# Altium integrated library TI Power Management Standard Voltage Regulator.IntLib: 214 symbols (part 2 of 7)
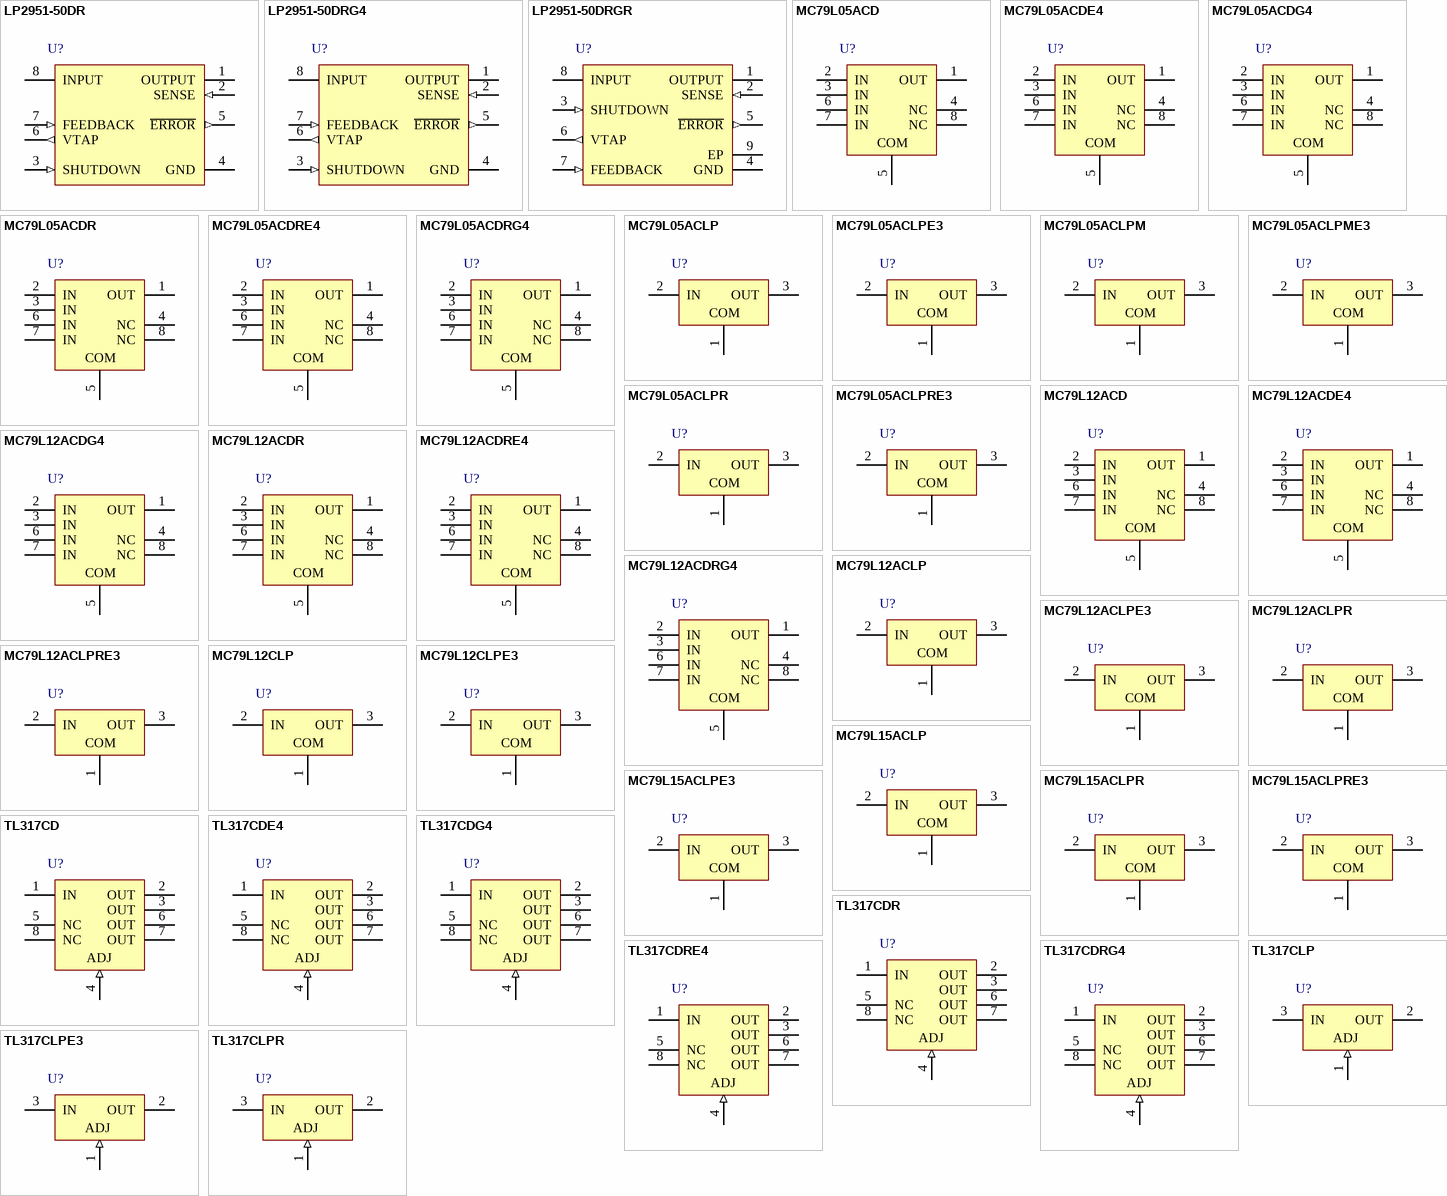
[diagram p7: symbols LP2951-50DR to TL317CLPR]

## MC79L05ACDE4
designator U?
Fixed Regulator with -7 to -20 V Input and -5 V Output, 0 to 125 degC, 8-Pin SOIC (D), Green (RoHS & no Sb/Br); Manufacturer: Texas Instruments; PartNumber: MC79L05ACDE4; Iout(Max)(A): 0.1; Iq(Typ)(mA): 6; DatasheetVersion: SLVS011D; PackageVersion: revM, Jun-2011; PackageReference: D8; PackageDescription: 8-Pin Plastic Small Outline Integrated Circuit, 4.9 x 3.9 mm, Pitch 1.27 mm Pitch; Supplier 1: Digi-Key; Supplier Part Number 1: MC79L05ACDE4-ND; Supplier 2: Newark; Supplier Part Number 2: 40K7402; Supplier 3: Mouser; Supplier Part Number 3: 595-MC79L05ACDE4; Eco-Plan: Green (RoHS & no Sb/Br); Vin(Max)(V): -20; Vin(Min)(V): -7; Vout(Max)(V): -5; Vout(Min)(V): -5; Mounting Technology: Surface Mount; Code_JEDEC: MS-012AA; ComponentLink1Description: Datasheet; ComponentLink1URL: http://www.ti.com/general/docs/lit/getliterature.tsp?genericPartNumber=MC79L05A&fileType=pdf; ComponentLink2Description: Package Specification; ComponentLink2URL: http://www.ti.com/litv/pdf/msoi002j; ComponentLink3Description: URL Link1; ComponentLink3URL: Samples URL:http://www.ti.com/product/mc79l05a#samples
footprint D8_N (SOIC, 8-Leads, Body 4.9x3.9mm, Pitch 1.27mm, IPC Medium Density)
footprint D8_L (SOIC, 8-Leads, Body 4.9x3.9mm, Pitch 1.27mm, IPC High Density)
footprint D8_M (SOIC, 8-Leads, Body 4.9x3.9mm, Pitch 1.27mm, IPC Low Density)
pins: 1 OUT (power), 2 IN (power), 3 IN (power), 4 NC, 5 COM (power), 6 IN (power), 7 IN (power), 8 NC

## MC79L05ACDG4
designator U?
Fixed Regulator with -7 to -20 V Input and -5 V Output, 0 to 125 degC, 8-Pin SOIC (D), Green (RoHS & no Sb/Br); Manufacturer: Texas Instruments; PartNumber: MC79L05ACDG4; Iout(Max)(A): 0.1; Iq(Typ)(mA): 6; DatasheetVersion: SLVS011D; PackageVersion: revM, Jun-2011; PackageReference: D8; PackageDescription: 8-Pin Plastic Small Outline Integrated Circuit, 4.9 x 3.9 mm, Pitch 1.27 mm Pitch; Supplier 1: Digi-Key; Supplier Part Number 1: MC79L05ACDG4-ND; Supplier 2: Newark; Supplier Part Number 2: 40K7403; Supplier 3: Mouser; Supplier Part Number 3: 595-MC79L05ACDG4; Eco-Plan: Green (RoHS & no Sb/Br); Vin(Max)(V): -20; Vin(Min)(V): -7; Vout(Max)(V): -5; Vout(Min)(V): -5; Mounting Technology: Surface Mount; Code_JEDEC: MS-012AA; ComponentLink1Description: Datasheet; ComponentLink1URL: http://www.ti.com/general/docs/lit/getliterature.tsp?genericPartNumber=MC79L05A&fileType=pdf; ComponentLink2Description: Package Specification; ComponentLink2URL: http://www.ti.com/litv/pdf/msoi002j; ComponentLink3Description: URL Link1; ComponentLink3URL: Samples URL:http://www.ti.com/product/mc79l05a#samples
footprint D8_N (SOIC, 8-Leads, Body 4.9x3.9mm, Pitch 1.27mm, IPC Medium Density)
footprint D8_L (SOIC, 8-Leads, Body 4.9x3.9mm, Pitch 1.27mm, IPC High Density)
footprint D8_M (SOIC, 8-Leads, Body 4.9x3.9mm, Pitch 1.27mm, IPC Low Density)
pins: 1 OUT (power), 2 IN (power), 3 IN (power), 4 NC, 5 COM (power), 6 IN (power), 7 IN (power), 8 NC

## MC79L05ACDR
designator U?
Fixed Regulator with -7 to -20 V Input and -5 V Output, 0 to 125 degC, 8-Pin SOIC (D), Green (RoHS & no Sb/Br); Manufacturer: Texas Instruments; PartNumber: MC79L05ACDR; Iout(Max)(A): 0.1; Iq(Typ)(mA): 6; DatasheetVersion: SLVS011D; PackageVersion: revM, Jun-2011; PackageReference: D8; PackageDescription: 8-Pin Plastic Small Outline Integrated Circuit, 4.9 x 3.9 mm, Pitch 1.27 mm Pitch; Supplier 1: Digi-Key; Supplier Part Number 1: 296-1016-2-ND; Supplier 2: Digi-Key; Supplier Part Number 2: 296-1016-1-ND; Supplier 3: Newark; Supplier Part Number 3: 35C1792; Supplier 4: Mouser; Supplier Part Number 4: 595-MC79L05ACDR; Eco-Plan: Green (RoHS & no Sb/Br); Vin(Max)(V): -20; Vin(Min)(V): -7; Vout(Max)(V): -5; Vout(Min)(V): -5; Mounting Technology: Surface Mount; Code_JEDEC: MS-012AA; ComponentLink1Description: Datasheet; ComponentLink1URL: http://www.ti.com/general/docs/lit/getliterature.tsp?genericPartNumber=MC79L05A&fileType=pdf; ComponentLink2Description: Package Specification; ComponentLink2URL: http://www.ti.com/litv/pdf/msoi002j; ComponentLink3Description: URL Link1; ComponentLink3URL: Samples URL:http://www.ti.com/product/mc79l05a#samples
footprint D8_N (SOIC, 8-Leads, Body 4.9x3.9mm, Pitch 1.27mm, IPC Medium Density)
footprint D8_L (SOIC, 8-Leads, Body 4.9x3.9mm, Pitch 1.27mm, IPC High Density)
footprint D8_M (SOIC, 8-Leads, Body 4.9x3.9mm, Pitch 1.27mm, IPC Low Density)
pins: 1 OUT (power), 2 IN (power), 3 IN (power), 4 NC, 5 COM (power), 6 IN (power), 7 IN (power), 8 NC

## MC79L05ACDRE4
designator U?
Fixed Regulator with -7 to -20 V Input and -5 V Output, 0 to 125 degC, 8-Pin SOIC (D), Green (RoHS & no Sb/Br); Manufacturer: Texas Instruments; PartNumber: MC79L05ACDRE4; Iout(Max)(A): 0.1; Iq(Typ)(mA): 6; DatasheetVersion: SLVS011D; PackageVersion: revM, Jun-2011; PackageReference: D8; PackageDescription: 8-Pin Plastic Small Outline Integrated Circuit, 4.9 x 3.9 mm, Pitch 1.27 mm Pitch; Supplier 1: Digi-Key; Supplier Part Number 1: MC79L05ACDRE4-ND; Supplier 2: Newark; Supplier Part Number 2: 40K7404; Supplier 3: Mouser; Supplier Part Number 3: 595-MC79L05ACDRE4; Eco-Plan: Green (RoHS & no Sb/Br); Vin(Max)(V): -20; Vin(Min)(V): -7; Vout(Max)(V): -5; Vout(Min)(V): -5; Mounting Technology: Surface Mount; Code_JEDEC: MS-012AA; ComponentLink1Description: Datasheet; ComponentLink1URL: http://www.ti.com/general/docs/lit/getliterature.tsp?genericPartNumber=MC79L05A&fileType=pdf; ComponentLink2Description: Package Specification; ComponentLink2URL: http://www.ti.com/litv/pdf/msoi002j; ComponentLink3Description: URL Link1; ComponentLink3URL: Samples URL:http://www.ti.com/product/mc79l05a#samples
footprint D8_N (SOIC, 8-Leads, Body 4.9x3.9mm, Pitch 1.27mm, IPC Medium Density)
footprint D8_L (SOIC, 8-Leads, Body 4.9x3.9mm, Pitch 1.27mm, IPC High Density)
footprint D8_M (SOIC, 8-Leads, Body 4.9x3.9mm, Pitch 1.27mm, IPC Low Density)
pins: 1 OUT (power), 2 IN (power), 3 IN (power), 4 NC, 5 COM (power), 6 IN (power), 7 IN (power), 8 NC

## MC79L05ACDRG4
designator U?
Fixed Regulator with -7 to -20 V Input and -5 V Output, 0 to 125 degC, 8-Pin SOIC (D), Green (RoHS & no Sb/Br); Manufacturer: Texas Instruments; PartNumber: MC79L05ACDRG4; Iout(Max)(A): 0.1; Iq(Typ)(mA): 6; DatasheetVersion: SLVS011D; PackageVersion: revM, Jun-2011; PackageReference: D8; PackageDescription: 8-Pin Plastic Small Outline Integrated Circuit, 4.9 x 3.9 mm, Pitch 1.27 mm Pitch; Supplier 1: Digi-Key; Supplier Part Number 1: MC79L05ACDRG4-ND; Supplier 2: Newark; Supplier Part Number 2: 40K7405; Supplier 3: Mouser; Supplier Part Number 3: 595-MC79L05ACDRG4; Eco-Plan: Green (RoHS & no Sb/Br); Vin(Max)(V): -20; Vin(Min)(V): -7; Vout(Max)(V): -5; Vout(Min)(V): -5; Mounting Technology: Surface Mount; Code_JEDEC: MS-012AA; ComponentLink1Description: Datasheet; ComponentLink1URL: http://www.ti.com/general/docs/lit/getliterature.tsp?genericPartNumber=MC79L05A&fileType=pdf; ComponentLink2Description: Package Specification; ComponentLink2URL: http://www.ti.com/litv/pdf/msoi002j; ComponentLink3Description: URL Link1; ComponentLink3URL: Samples URL:http://www.ti.com/product/mc79l05a#samples
footprint D8_N (SOIC, 8-Leads, Body 4.9x3.9mm, Pitch 1.27mm, IPC Medium Density)
footprint D8_L (SOIC, 8-Leads, Body 4.9x3.9mm, Pitch 1.27mm, IPC High Density)
footprint D8_M (SOIC, 8-Leads, Body 4.9x3.9mm, Pitch 1.27mm, IPC Low Density)
pins: 1 OUT (power), 2 IN (power), 3 IN (power), 4 NC, 5 COM (power), 6 IN (power), 7 IN (power), 8 NC

## MC79L05ACLP
designator U?
Fixed Regulator with -7 to -20 V Input and -5 V Output, 0 to 125 degC, 3-Pin TO-92 (LP), Pb-Free (RoHS); Manufacturer: Texas Instruments; PartNumber: MC79L05ACLP; Iout(Max)(A): 0.1; Iq(Typ)(mA): 6; Vdo(Typ)(V): 1.7; DatasheetVersion: SLVS011D; PackageVersion: revC, Oct-2001; PackageReference: LP3; PackageDescription: Plastic Cylindrical Package, Formed Lead Option (TO-92); Supplier 1: Digi-Key; Supplier Part Number 1: 296-9603-5-ND; Supplier 2: Farnell; Supplier Part Number 2: 9589848; Supplier 3: Newark; Supplier Part Number 3: 07F7671; Supplier 4: Mouser; Supplier Part Number 4: 595-MC79L05ACLP; Eco-Plan: Pb-Free (RoHS); Vin(Max)(V): -20; Vin(Min)(V): -7; Vout(Max)(V): -5; Vout(Min)(V): -5; Mounting Technology: Through Hole; Code_JEDEC: TO-226-AA; ComponentLink1Description: Datasheet; ComponentLink1URL: http://www.ti.com/general/docs/lit/getliterature.tsp?genericPartNumber=MC79L05A&fileType=pdf; ComponentLink2Description: Package Specification; ComponentLink2URL: http://www.ti.com/litv/pdf/msot002a; ComponentLink3Description: URL Link1; ComponentLink3URL: Samples URL:http://www.ti.com/product/mc79l05a#samples
footprint LP3 (TO, Flat Index; 3 In-Line, Formed Axial Leads; Body Dia. 4.8mm; Leads 0.56 x 0.41 mm (max))
pins: 1 COM (power), 2 IN (power), 3 OUT (power)

## MC79L05ACLPE3
designator U?
Fixed Regulator with -7 to -20 V Input and -5 V Output, 0 to 125 degC, 3-Pin TO-92 (LP), Pb-Free (RoHS); Manufacturer: Texas Instruments; PartNumber: MC79L05ACLPE3; Iout(Max)(A): 0.1; Iq(Typ)(mA): 6; DatasheetVersion: SLVS011D; PackageVersion: revC, Oct-2001; PackageReference: LP3; PackageDescription: Plastic Cylindrical Package, Formed Lead Option (TO-92); Supplier 1: Digi-Key; Supplier Part Number 1: MC79L05ACLPE3-ND; Supplier 2: Mouser; Supplier Part Number 2: 595-MC79L05ACLPE3; Eco-Plan: Pb-Free (RoHS); Vin(Max)(V): -20; Vin(Min)(V): -7; Vout(Max)(V): -5; Vout(Min)(V): -5; Mounting Technology: Through Hole; Code_JEDEC: TO-226-AA; ComponentLink1Description: Datasheet; ComponentLink1URL: http://www.ti.com/general/docs/lit/getliterature.tsp?genericPartNumber=MC79L05A&fileType=pdf; ComponentLink2Description: Package Specification; ComponentLink2URL: http://www.ti.com/litv/pdf/msot002a; ComponentLink3Description: URL Link1; ComponentLink3URL: Samples URL:http://www.ti.com/product/mc79l05a#samples
footprint LP3 (TO, Flat Index; 3 In-Line, Formed Axial Leads; Body Dia. 4.8mm; Leads 0.56 x 0.41 mm (max))
pins: 1 COM (power), 2 IN (power), 3 OUT (power)

## MC79L05ACLPM
designator U?
Fixed Regulator with -7 to -20 V Input and -5 V Output, 0 to 125 degC, 3-Pin TO-92 (LP), Pb-Free (RoHS); Manufacturer: Texas Instruments; PartNumber: MC79L05ACLPM; Iout(Max)(A): 0.1; Iq(Typ)(mA): 6; DatasheetVersion: SLVS011D; PackageVersion: revC, Oct-2001; PackageReference: LP3; PackageDescription: Plastic Cylindrical Package, Formed Lead Option (TO-92); Supplier 1: Digi-Key; Supplier Part Number 1: MC79L05ACLPM-ND; Supplier 2: Mouser; Supplier Part Number 2: 595-MC79L05ACLPM; Eco-Plan: Pb-Free (RoHS); Vin(Max)(V): -20; Vin(Min)(V): -7; Vout(Max)(V): -5; Vout(Min)(V): -5; Mounting Technology: Through Hole; Code_JEDEC: TO-226-AA; ComponentLink1Description: Datasheet; ComponentLink1URL: http://www.ti.com/general/docs/lit/getliterature.tsp?genericPartNumber=MC79L05A&fileType=pdf; ComponentLink2Description: Package Specification; ComponentLink2URL: http://www.ti.com/litv/pdf/msot002a; ComponentLink3Description: URL Link1; ComponentLink3URL: Samples URL:http://www.ti.com/product/mc79l05a#samples
footprint LP3 (TO, Flat Index; 3 In-Line, Formed Axial Leads; Body Dia. 4.8mm; Leads 0.56 x 0.41 mm (max))
pins: 1 COM (power), 2 IN (power), 3 OUT (power)

## MC79L05ACLPME3
designator U?
Fixed Regulator with -7 to -20 V Input and -5 V Output, 0 to 125 degC, 3-Pin TO-92 (LP), Pb-Free (RoHS); Manufacturer: Texas Instruments; PartNumber: MC79L05ACLPME3; Iout(Max)(A): 0.1; Iq(Typ)(mA): 6; SubFamily: Single Channel LDO; DatasheetVersion: SLVS011D; PackageVersion: revC, Oct-2001; PackageReference: LP3; PackageDescription: Plastic Cylindrical Package, Formed Lead Option (TO-92); Supplier 1: Digi-Key; Supplier Part Number 1: MC79L05ACLPME3-ND; Supplier 2: Mouser; Supplier Part Number 2: 595-MC79L05ACLPME3; Eco-Plan: Pb-Free (RoHS); Vin(Max)(V): -20; Vin(Min)(V): -7; Vout(Max)(V): -5; Vout(Min)(V): -5; Mounting Technology: Through Hole; Code_JEDEC: TO-226-AA; ComponentLink1Description: Datasheet; ComponentLink1URL: http://www.ti.com/general/docs/lit/getliterature.tsp?genericPartNumber=MC79L05A&fileType=pdf; ComponentLink2Description: Package Specification; ComponentLink2URL: http://www.ti.com/litv/pdf/msot002a; ComponentLink3Description: URL Link1; ComponentLink3URL: Samples URL:http://www.ti.com/product/mc79l05a#samples
footprint LP3 (TO, Flat Index; 3 In-Line, Formed Axial Leads; Body Dia. 4.8mm; Leads 0.56 x 0.41 mm (max))
pins: 1 COM (power), 2 IN (power), 3 OUT (power)

## MC79L05ACLPR
designator U?
Fixed Regulator with -7 to -20 V Input and -5 V Output, 0 to 125 degC, 3-Pin TO-92 (LP), Pb-Free (RoHS); Manufacturer: Texas Instruments; PartNumber: MC79L05ACLPR; Iout(Max)(A): 0.1; Iq(Typ)(mA): 6; DatasheetVersion: SLVS011D; PackageVersion: revC, Oct-2001; PackageReference: LP3; PackageDescription: Plastic Cylindrical Package, Formed Lead Option (TO-92); Supplier 1: Digi-Key; Supplier Part Number 1: 296-31456-2-ND; Supplier 2: Digi-Key; Supplier Part Number 2: 296-31456-1-ND; Supplier 3: Newark; Supplier Part Number 3: 75C3278; Supplier 4: Mouser; Supplier Part Number 4: 595-MC79L05ACLPR; Eco-Plan: Pb-Free (RoHS); Vin(Max)(V): -20; Vin(Min)(V): -7; Vout(Max)(V): -5; Vout(Min)(V): -5; Mounting Technology: Through Hole; Code_JEDEC: TO-226-AA; ComponentLink1Description: Datasheet; ComponentLink1URL: http://www.ti.com/general/docs/lit/getliterature.tsp?genericPartNumber=MC79L05A&fileType=pdf; ComponentLink2Description: Package Specification; ComponentLink2URL: http://www.ti.com/litv/pdf/msot002a; ComponentLink3Description: URL Link1; ComponentLink3URL: Samples URL:http://www.ti.com/product/mc79l05a#samples
footprint LP3 (TO, Flat Index; 3 In-Line, Formed Axial Leads; Body Dia. 4.8mm; Leads 0.56 x 0.41 mm (max))
pins: 1 COM (power), 2 IN (power), 3 OUT (power)

## MC79L05ACLPRE3
designator U?
Fixed Regulator with -7 to -20 V Input and -5 V Output, 0 to 125 degC, 3-Pin TO-92 (LP), Pb-Free (RoHS); Manufacturer: Texas Instruments; PartNumber: MC79L05ACLPRE3; Iout(Max)(A): 0.1; Iq(Typ)(mA): 6; DatasheetVersion: SLVS011D; PackageVersion: revC, Oct-2001; PackageReference: LP3; PackageDescription: Plastic Cylindrical Package, Formed Lead Option (TO-92); Supplier 1: Digi-Key; Supplier Part Number 1: MC79L05ACLPRE3-ND; Supplier 2: Mouser; Supplier Part Number 2: 595-MC79L05ACLPRE3; Eco-Plan: Pb-Free (RoHS); Vin(Max)(V): -20; Vin(Min)(V): -7; Vout(Max)(V): -5; Vout(Min)(V): -5; Mounting Technology: Through Hole; Code_JEDEC: TO-226-AA; ComponentLink1Description: Datasheet; ComponentLink1URL: http://www.ti.com/general/docs/lit/getliterature.tsp?genericPartNumber=MC79L05A&fileType=pdf; ComponentLink2Description: Package Specification; ComponentLink2URL: http://www.ti.com/litv/pdf/msot002a; ComponentLink3Description: URL Link1; ComponentLink3URL: Samples URL:http://www.ti.com/product/mc79l05a#samples
footprint LP3 (TO, Flat Index; 3 In-Line, Formed Axial Leads; Body Dia. 4.8mm; Leads 0.56 x 0.41 mm (max))
pins: 1 COM (power), 2 IN (power), 3 OUT (power)

## MC79L12ACD
designator U?
Fixed Regulator with -14.5 to -27 V Input and -12 V Output, 0 to 125 degC, 8-Pin SOIC (D), Green (RoHS & no Sb/Br); Manufacturer: Texas Instruments; PartNumber: MC79L12ACD; Iout(Max)(A): 0.1; Iq(Typ)(mA): 6.5; DatasheetVersion: SLVS011D; PackageVersion: revM, Jun-2011; PackageReference: D8; PackageDescription: 8-Pin Plastic Small Outline Integrated Circuit, 4.9 x 3.9 mm, Pitch 1.27 mm Pitch; Supplier 1: Digi-Key; Supplier Part Number 1: 296-9604-5-ND; Supplier 2: Farnell; Supplier Part Number 2: 1461053; Supplier 3: Newark; Supplier Part Number 3: 61M7746; Supplier 4: Newark; Supplier Part Number 4: 75C3284; Supplier 5: Mouser; Supplier Part Number 5: 595-MC79L12ACD; Eco-Plan: Green (RoHS & no Sb/Br); Vin(Max)(V): -27; Vin(Min)(V): -14.5; Vout(Max)(V): -12; Vout(Min)(V): -12; Mounting Technology: Surface Mount; Code_JEDEC: MS-012AA; ComponentLink1Description: Datasheet; ComponentLink1URL: http://www.ti.com/general/docs/lit/getliterature.tsp?genericPartNumber=MC79L12A&fileType=pdf; ComponentLink2Description: Package Specification; ComponentLink2URL: http://www.ti.com/litv/pdf/msoi002j; ComponentLink3Description: URL Link1; ComponentLink3URL: Samples URL:http://www.ti.com/product/mc79l12a#samples
footprint D8_N (SOIC, 8-Leads, Body 4.9x3.9mm, Pitch 1.27mm, IPC Medium Density)
footprint D8_L (SOIC, 8-Leads, Body 4.9x3.9mm, Pitch 1.27mm, IPC High Density)
footprint D8_M (SOIC, 8-Leads, Body 4.9x3.9mm, Pitch 1.27mm, IPC Low Density)
pins: 1 OUT (power), 2 IN (power), 3 IN (power), 4 NC, 5 COM (power), 6 IN (power), 7 IN (power), 8 NC

## MC79L12ACDE4
designator U?
Fixed Regulator with -14.5 to -27 V Input and -12 V Output, 0 to 125 degC, 8-Pin SOIC (D), Green (RoHS & no Sb/Br); Manufacturer: Texas Instruments; PartNumber: MC79L12ACDE4; Iout(Max)(A): 0.1; Iq(Typ)(mA): 6.5; DatasheetVersion: SLVS011D; PackageVersion: revM, Jun-2011; PackageReference: D8; PackageDescription: 8-Pin Plastic Small Outline Integrated Circuit, 4.9 x 3.9 mm, Pitch 1.27 mm Pitch; Supplier 1: Digi-Key; Supplier Part Number 1: MC79L12ACDE4-ND; Supplier 2: Newark; Supplier Part Number 2: 37K0618; Supplier 3: Mouser; Supplier Part Number 3: 595-MC79L12ACDE4; Eco-Plan: Green (RoHS & no Sb/Br); Vin(Max)(V): -27; Vin(Min)(V): -14.5; Vout(Max)(V): -12; Vout(Min)(V): -12; Mounting Technology: Surface Mount; Code_JEDEC: MS-012AA; ComponentLink1Description: Datasheet; ComponentLink1URL: http://www.ti.com/general/docs/lit/getliterature.tsp?genericPartNumber=MC79L12A&fileType=pdf; ComponentLink2Description: Package Specification; ComponentLink2URL: http://www.ti.com/litv/pdf/msoi002j; ComponentLink3Description: URL Link1; ComponentLink3URL: Samples URL:http://www.ti.com/product/mc79l12a#samples
footprint D8_N (SOIC, 8-Leads, Body 4.9x3.9mm, Pitch 1.27mm, IPC Medium Density)
footprint D8_L (SOIC, 8-Leads, Body 4.9x3.9mm, Pitch 1.27mm, IPC High Density)
footprint D8_M (SOIC, 8-Leads, Body 4.9x3.9mm, Pitch 1.27mm, IPC Low Density)
pins: 1 OUT (power), 2 IN (power), 3 IN (power), 4 NC, 5 COM (power), 6 IN (power), 7 IN (power), 8 NC

## MC79L12ACDG4
designator U?
Fixed Regulator with -14.5 to -27 V Input and -12 V Output, 0 to 125 degC, 8-Pin SOIC (D), Green (RoHS & no Sb/Br); Manufacturer: Texas Instruments; PartNumber: MC79L12ACDG4; Iout(Max)(A): 0.1; Iq(Typ)(mA): 6.5; DatasheetVersion: SLVS011D; PackageVersion: revM, Jun-2011; PackageReference: D8; PackageDescription: 8-Pin Plastic Small Outline Integrated Circuit, 4.9 x 3.9 mm, Pitch 1.27 mm Pitch; Supplier 1: Digi-Key; Supplier Part Number 1: MC79L12ACDG4-ND; Supplier 2: Newark; Supplier Part Number 2: 41M3579; Supplier 3: Mouser; Supplier Part Number 3: 595-MC79L12ACDG4; Eco-Plan: Green (RoHS & no Sb/Br); Vin(Max)(V): -27; Vin(Min)(V): -14.5; Vout(Max)(V): -12; Vout(Min)(V): -12; Mounting Technology: Surface Mount; Code_JEDEC: MS-012AA; ComponentLink1Description: Datasheet; ComponentLink1URL: http://www.ti.com/general/docs/lit/getliterature.tsp?genericPartNumber=MC79L12A&fileType=pdf; ComponentLink2Description: Package Specification; ComponentLink2URL: http://www.ti.com/litv/pdf/msoi002j; ComponentLink3Description: URL Link1; ComponentLink3URL: Samples URL:http://www.ti.com/product/mc79l12a#samples
footprint D8_N (SOIC, 8-Leads, Body 4.9x3.9mm, Pitch 1.27mm, IPC Medium Density)
footprint D8_L (SOIC, 8-Leads, Body 4.9x3.9mm, Pitch 1.27mm, IPC High Density)
footprint D8_M (SOIC, 8-Leads, Body 4.9x3.9mm, Pitch 1.27mm, IPC Low Density)
pins: 1 OUT (power), 2 IN (power), 3 IN (power), 4 NC, 5 COM (power), 6 IN (power), 7 IN (power), 8 NC

## MC79L12ACDR
designator U?
Fixed Regulator with -14.5 to -27 V Input and -12 V Output, 0 to 125 degC, 8-Pin SOIC (D), Green (RoHS & no Sb/Br); Manufacturer: Texas Instruments; PartNumber: MC79L12ACDR; Iout(Max)(A): 0.1; Iq(Typ)(mA): 6.5; DatasheetVersion: SLVS011D; PackageVersion: revM, Jun-2011; PackageReference: D8; PackageDescription: 8-Pin Plastic Small Outline Integrated Circuit, 4.9 x 3.9 mm, Pitch 1.27 mm Pitch; Supplier 1: Digi-Key; Supplier Part Number 1: 296-31679-2-ND; Supplier 2: Digi-Key; Supplier Part Number 2: 296-31679-1-ND; Supplier 3: Digi-Key; Supplier Part Number 3: 296-31679-6-ND; Supplier 4: Newark; Supplier Part Number 4: 75C3285; Supplier 5: Mouser; Supplier Part Number 5: 595-MC79L12ACDR; Eco-Plan: Green (RoHS & no Sb/Br); Vin(Max)(V): -27; Vin(Min)(V): -14.5; Vout(Max)(V): -12; Vout(Min)(V): -12; Mounting Technology: Surface Mount; Code_JEDEC: MS-012AA; ComponentLink1Description: Datasheet; ComponentLink1URL: http://www.ti.com/general/docs/lit/getliterature.tsp?genericPartNumber=MC79L12A&fileType=pdf; ComponentLink2Description: Package Specification; ComponentLink2URL: http://www.ti.com/litv/pdf/msoi002j; ComponentLink3Description: URL Link1; ComponentLink3URL: Samples URL:http://www.ti.com/product/mc79l12a#samples
footprint D8_N (SOIC, 8-Leads, Body 4.9x3.9mm, Pitch 1.27mm, IPC Medium Density)
footprint D8_L (SOIC, 8-Leads, Body 4.9x3.9mm, Pitch 1.27mm, IPC High Density)
footprint D8_M (SOIC, 8-Leads, Body 4.9x3.9mm, Pitch 1.27mm, IPC Low Density)
pins: 1 OUT (power), 2 IN (power), 3 IN (power), 4 NC, 5 COM (power), 6 IN (power), 7 IN (power), 8 NC

## MC79L12ACDRE4
designator U?
Fixed Regulator with -14.5 to -27 V Input and -12 V Output, 0 to 125 degC, 8-Pin SOIC (D), Green (RoHS & no Sb/Br); Manufacturer: Texas Instruments; PartNumber: MC79L12ACDRE4; Iout(Max)(A): 0.1; Iq(Typ)(mA): 6.5; DatasheetVersion: SLVS011D; PackageVersion: revM, Jun-2011; PackageReference: D8; PackageDescription: 8-Pin Plastic Small Outline Integrated Circuit, 4.9 x 3.9 mm, Pitch 1.27 mm Pitch; Supplier 1: Digi-Key; Supplier Part Number 1: MC79L12ACDRE4-ND; Supplier 2: Newark; Supplier Part Number 2: 37K0619; Supplier 3: Mouser; Supplier Part Number 3: 595-MC79L12ACDRE4; Eco-Plan: Green (RoHS & no Sb/Br); Vin(Max)(V): -27; Vin(Min)(V): -14.5; Vout(Max)(V): -12; Vout(Min)(V): -12; Mounting Technology: Surface Mount; Code_JEDEC: MS-012AA; ComponentLink1Description: Datasheet; ComponentLink1URL: http://www.ti.com/general/docs/lit/getliterature.tsp?genericPartNumber=MC79L12A&fileType=pdf; ComponentLink2Description: Package Specification; ComponentLink2URL: http://www.ti.com/litv/pdf/msoi002j; ComponentLink3Description: URL Link1; ComponentLink3URL: Samples URL:http://www.ti.com/product/mc79l12a#samples
footprint D8_N (SOIC, 8-Leads, Body 4.9x3.9mm, Pitch 1.27mm, IPC Medium Density)
footprint D8_L (SOIC, 8-Leads, Body 4.9x3.9mm, Pitch 1.27mm, IPC High Density)
footprint D8_M (SOIC, 8-Leads, Body 4.9x3.9mm, Pitch 1.27mm, IPC Low Density)
pins: 1 OUT (power), 2 IN (power), 3 IN (power), 4 NC, 5 COM (power), 6 IN (power), 7 IN (power), 8 NC

## MC79L12ACDRG4
designator U?
Fixed Regulator with -14.5 to -27 V Input and -12 V Output, 0 to 125 degC, 8-Pin SOIC (D), Green (RoHS & no Sb/Br); Manufacturer: Texas Instruments; PartNumber: MC79L12ACDRG4; Iout(Max)(A): 0.1; Iq(Typ)(mA): 6.5; DatasheetVersion: SLVS011D; PackageVersion: revM, Jun-2011; PackageReference: D8; PackageDescription: 8-Pin Plastic Small Outline Integrated Circuit, 4.9 x 3.9 mm, Pitch 1.27 mm Pitch; Supplier 1: Digi-Key; Supplier Part Number 1: MC79L12ACDRG4-ND; Supplier 2: Newark; Supplier Part Number 2: 41M3580; Supplier 3: Mouser; Supplier Part Number 3: 595-MC79L12ACDRG4; Eco-Plan: Green (RoHS & no Sb/Br); Vin(Max)(V): -27; Vin(Min)(V): -14.5; Vout(Max)(V): -12; Vout(Min)(V): -12; Mounting Technology: Surface Mount; Code_JEDEC: MS-012AA; ComponentLink1Description: Datasheet; ComponentLink1URL: http://www.ti.com/general/docs/lit/getliterature.tsp?genericPartNumber=MC79L12A&fileType=pdf; ComponentLink2Description: Package Specification; ComponentLink2URL: http://www.ti.com/litv/pdf/msoi002j; ComponentLink3Description: URL Link1; ComponentLink3URL: Samples URL:http://www.ti.com/product/mc79l12a#samples
footprint D8_N (SOIC, 8-Leads, Body 4.9x3.9mm, Pitch 1.27mm, IPC Medium Density)
footprint D8_L (SOIC, 8-Leads, Body 4.9x3.9mm, Pitch 1.27mm, IPC High Density)
footprint D8_M (SOIC, 8-Leads, Body 4.9x3.9mm, Pitch 1.27mm, IPC Low Density)
pins: 1 OUT (power), 2 IN (power), 3 IN (power), 4 NC, 5 COM (power), 6 IN (power), 7 IN (power), 8 NC

## MC79L12ACLP
designator U?
Fixed Regulator with -14.5 to -27 V Input and -12 V Output, 0 to 125 degC, 3-Pin TO-92 (LP), Pb-Free (RoHS); Manufacturer: Texas Instruments; PartNumber: MC79L12ACLP; Iout(Max)(A): 0.1; Iq(Typ)(mA): 6.5; DatasheetVersion: SLVS011D; PackageVersion: revC, Oct-2001; PackageReference: LP3; PackageDescription: Plastic Cylindrical Package, Formed Lead Option (TO-92); Supplier 1: Digi-Key; Supplier Part Number 1: 296-31375-ND; Supplier 2: Newark; Supplier Part Number 2: 75C3287; Supplier 3: Mouser; Supplier Part Number 3: 595-MC79L12ACLP; Eco-Plan: Pb-Free (RoHS); Vin(Max)(V): -27; Vin(Min)(V): -14.5; Vout(Max)(V): -12; Vout(Min)(V): -12; Mounting Technology: Through Hole; Code_JEDEC: TO-226-AA; ComponentLink1Description: Datasheet; ComponentLink1URL: http://www.ti.com/general/docs/lit/getliterature.tsp?genericPartNumber=MC79L12A&fileType=pdf; ComponentLink2Description: Package Specification; ComponentLink2URL: http://www.ti.com/litv/pdf/msot002a; ComponentLink3Description: URL Link1; ComponentLink3URL: Samples URL:http://www.ti.com/product/mc79l12a#samples
footprint LP3 (TO, Flat Index; 3 In-Line, Formed Axial Leads; Body Dia. 4.8mm; Leads 0.56 x 0.41 mm (max))
pins: 1 COM (power), 2 IN (power), 3 OUT (power)

## MC79L12ACLPE3
designator U?
Fixed Regulator with -14.5 to -27 V Input and -12 V Output, 0 to 125 degC, 3-Pin TO-92 (LP), Pb-Free (RoHS); Manufacturer: Texas Instruments; PartNumber: MC79L12ACLPE3; Iout(Max)(A): 0.1; Iq(Typ)(mA): 6.5; DatasheetVersion: SLVS011D; PackageVersion: revC, Oct-2001; PackageReference: LP3; PackageDescription: Plastic Cylindrical Package, Formed Lead Option (TO-92); Supplier 1: Digi-Key; Supplier Part Number 1: MC79L12ACLPE3-ND; Supplier 2: Mouser; Supplier Part Number 2: 595-MC79L12ACLPE3; Eco-Plan: Pb-Free (RoHS); Vin(Max)(V): -27; Vin(Min)(V): -14.5; Vout(Max)(V): -12; Vout(Min)(V): -12; Mounting Technology: Through Hole; Code_JEDEC: TO-226-AA; ComponentLink1Description: Datasheet; ComponentLink1URL: http://www.ti.com/general/docs/lit/getliterature.tsp?genericPartNumber=MC79L12A&fileType=pdf; ComponentLink2Description: Package Specification; ComponentLink2URL: http://www.ti.com/litv/pdf/msot002a; ComponentLink3Description: URL Link1; ComponentLink3URL: Samples URL:http://www.ti.com/product/mc79l12a#samples
footprint LP3 (TO, Flat Index; 3 In-Line, Formed Axial Leads; Body Dia. 4.8mm; Leads 0.56 x 0.41 mm (max))
pins: 1 COM (power), 2 IN (power), 3 OUT (power)

## MC79L12ACLPR
designator U?
Fixed Regulator with -14.5 to -27 V Input and -12 V Output, 0 to 125 degC, 3-Pin TO-92 (LP), Pb-Free (RoHS); Manufacturer: Texas Instruments; PartNumber: MC79L12ACLPR; Iout(Max)(A): 0.1; Iq(Typ)(mA): 6.5; DatasheetVersion: SLVS011D; PackageVersion: revC, Oct-2001; PackageReference: LP3; PackageDescription: Plastic Cylindrical Package, Formed Lead Option (TO-92); Supplier 1: Digi-Key; Supplier Part Number 1: 296-9605-2-ND; Supplier 2: Digi-Key; Supplier Part Number 2: 296-9605-1-ND; Supplier 3: Newark; Supplier Part Number 3: 75C3288; Supplier 4: Mouser; Supplier Part Number 4: 595-MC79L12ACLPR; Eco-Plan: Pb-Free (RoHS); Vin(Max)(V): -27; Vin(Min)(V): -14.5; Vout(Max)(V): -12; Vout(Min)(V): -12; Mounting Technology: Through Hole; Code_JEDEC: TO-226-AA; ComponentLink1Description: Datasheet; ComponentLink1URL: http://www.ti.com/general/docs/lit/getliterature.tsp?genericPartNumber=MC79L12A&fileType=pdf; ComponentLink2Description: Package Specification; ComponentLink2URL: http://www.ti.com/litv/pdf/msot002a; ComponentLink3Description: URL Link1; ComponentLink3URL: Samples URL:http://www.ti.com/product/mc79l12a#samples
footprint LP3 (TO, Flat Index; 3 In-Line, Formed Axial Leads; Body Dia. 4.8mm; Leads 0.56 x 0.41 mm (max))
pins: 1 COM (power), 2 IN (power), 3 OUT (power)

## MC79L12ACLPRE3
designator U?
Fixed Regulator with -14.5 to -27 V Input and -12 V Output, 0 to 125 degC, 3-Pin TO-92 (LP), Pb-Free (RoHS); Manufacturer: Texas Instruments; PartNumber: MC79L12ACLPRE3; Iout(Max)(A): 0.1; Iq(Typ)(mA): 6.5; DatasheetVersion: SLVS011D; PackageVersion: revC, Oct-2001; PackageReference: LP3; PackageDescription: Plastic Cylindrical Package, Formed Lead Option (TO-92); Supplier 1: Digi-Key; Supplier Part Number 1: MC79L12ACLPRE3-ND; Supplier 2: Mouser; Supplier Part Number 2: 595-MC79L12ACLPRE3; Eco-Plan: Pb-Free (RoHS); Vin(Max)(V): -27; Vin(Min)(V): -14.5; Vout(Max)(V): -12; Vout(Min)(V): -12; Mounting Technology: Through Hole; Code_JEDEC: TO-226-AA; ComponentLink1Description: Datasheet; ComponentLink1URL: http://www.ti.com/general/docs/lit/getliterature.tsp?genericPartNumber=MC79L12A&fileType=pdf; ComponentLink2Description: Package Specification; ComponentLink2URL: http://www.ti.com/litv/pdf/msot002a; ComponentLink3Description: URL Link1; ComponentLink3URL: Samples URL:http://www.ti.com/product/mc79l12a#samples
footprint LP3 (TO, Flat Index; 3 In-Line, Formed Axial Leads; Body Dia. 4.8mm; Leads 0.56 x 0.41 mm (max))
pins: 1 COM (power), 2 IN (power), 3 OUT (power)

## MC79L12CLP
designator U?
Fixed Regulator with -14.5 to -27 V Input and -12 V Output, 0 to 125 degC, 3-Pin TO-92 (LP), Pb-Free (RoHS); Manufacturer: Texas Instruments; PartNumber: MC79L12CLP; Iout(Max)(A): 0.1; Iq(Typ)(mA): 6.5; DatasheetVersion: SLVS011D; PackageVersion: revC, Oct-2001; PackageReference: LP3; PackageDescription: Plastic Cylindrical Package, Formed Lead Option (TO-92); Supplier 1: Digi-Key; Supplier Part Number 1: 296-9606-5-ND; Supplier 2: Newark; Supplier Part Number 2: 75C3291; Supplier 3: Mouser; Supplier Part Number 3: 595-MC79L12CLP; Eco-Plan: Pb-Free (RoHS); Vin(Max)(V): -27; Vin(Min)(V): -14.5; Vout(Max)(V): -12; Vout(Min)(V): -12; Mounting Technology: Through Hole; Code_JEDEC: TO-226-AA; ComponentLink1Description: Datasheet; ComponentLink1URL: http://www.ti.com/general/docs/lit/getliterature.tsp?genericPartNumber=MC79L12&fileType=pdf; ComponentLink2Description: Package Specification; ComponentLink2URL: http://www.ti.com/litv/pdf/msot002a; ComponentLink3Description: URL Link1; ComponentLink3URL: Samples URL:http://www.ti.com/product/mc79l12#samples
footprint LP3 (TO, Flat Index; 3 In-Line, Formed Axial Leads; Body Dia. 4.8mm; Leads 0.56 x 0.41 mm (max))
pins: 1 COM (power), 2 IN (power), 3 OUT (power)

## MC79L12CLPE3
designator U?
Fixed Regulator with -14.5 to -27 V Input and -12 V Output, 0 to 125 degC, 3-Pin TO-92 (LP), Pb-Free (RoHS); Manufacturer: Texas Instruments; PartNumber: MC79L12CLPE3; Iout(Max)(A): 0.1; Iq(Typ)(mA): 6.5; DatasheetVersion: SLVS011D; PackageVersion: revC, Oct-2001; PackageReference: LP3; PackageDescription: Plastic Cylindrical Package, Formed Lead Option (TO-92); Supplier 1: Digi-Key; Supplier Part Number 1: MC79L12CLPE3-ND; Supplier 2: Mouser; Supplier Part Number 2: 595-MC79L12CLPE3; Eco-Plan: Pb-Free (RoHS); Vin(Max)(V): -27; Vin(Min)(V): -14.5; Vout(Max)(V): -12; Vout(Min)(V): -12; Mounting Technology: Through Hole; Code_JEDEC: TO-226-AA; ComponentLink1Description: Datasheet; ComponentLink1URL: http://www.ti.com/general/docs/lit/getliterature.tsp?genericPartNumber=MC79L12&fileType=pdf; ComponentLink2Description: Package Specification; ComponentLink2URL: http://www.ti.com/litv/pdf/msot002a; ComponentLink3Description: URL Link1; ComponentLink3URL: Samples URL:http://www.ti.com/product/mc79l12#samples
footprint LP3 (TO, Flat Index; 3 In-Line, Formed Axial Leads; Body Dia. 4.8mm; Leads 0.56 x 0.41 mm (max))
pins: 1 COM (power), 2 IN (power), 3 OUT (power)

## MC79L15ACLP
designator U?
Fixed Regulator with -17.5 to -30 V Input and -15 V Output, 0 to 125 degC, 3-Pin TO-92 (LP), Pb-Free (RoHS); Manufacturer: Texas Instruments; PartNumber: MC79L15ACLP; Iout(Max)(A): 0.1; Iq(Typ)(mA): 6.5; DatasheetVersion: SLVS011D; PackageVersion: revC, Oct-2001; PackageReference: LP3; PackageDescription: Plastic Cylindrical Package, Formed Lead Option (TO-92); Supplier 1: Digi-Key; Supplier Part Number 1: 296-9607-ND; Supplier 2: Newark; Supplier Part Number 2: 75C3295; Supplier 3: Mouser; Supplier Part Number 3: 595-MC79L15ACLP; Eco-Plan: Pb-Free (RoHS); Vin(Max)(V): -30; Vin(Min)(V): -17.5; Vout(Max)(V): -15; Vout(Min)(V): -15; Mounting Technology: Through Hole; Code_JEDEC: TO-226-AA; ComponentLink1Description: Datasheet; ComponentLink1URL: http://www.ti.com/general/docs/lit/getliterature.tsp?genericPartNumber=MC79L15A&fileType=pdf; ComponentLink2Description: Package Specification; ComponentLink2URL: http://www.ti.com/litv/pdf/msot002a; ComponentLink3Description: URL Link1; ComponentLink3URL: Samples URL:http://www.ti.com/product/mc79l15a#samples
footprint LP3 (TO, Flat Index; 3 In-Line, Formed Axial Leads; Body Dia. 4.8mm; Leads 0.56 x 0.41 mm (max))
pins: 1 COM (power), 2 IN (power), 3 OUT (power)

## MC79L15ACLPE3
designator U?
Fixed Regulator with -17.5 to -30 V Input and -15 V Output, 0 to 125 degC, 3-Pin TO-92 (LP), Pb-Free (RoHS); Manufacturer: Texas Instruments; PartNumber: MC79L15ACLPE3; Iout(Max)(A): 0.1; Iq(Typ)(mA): 6.5; DatasheetVersion: SLVS011D; PackageVersion: revC, Oct-2001; PackageReference: LP3; PackageDescription: Plastic Cylindrical Package, Formed Lead Option (TO-92); Supplier 1: Digi-Key; Supplier Part Number 1: MC79L15ACLPE3-ND; Supplier 2: Mouser; Supplier Part Number 2: 595-MC79L15ACLPE3; Eco-Plan: Pb-Free (RoHS); Vin(Max)(V): -30; Vin(Min)(V): -17.5; Vout(Max)(V): -15; Vout(Min)(V): -15; Mounting Technology: Through Hole; Code_JEDEC: TO-226-AA; ComponentLink1Description: Datasheet; ComponentLink1URL: http://www.ti.com/general/docs/lit/getliterature.tsp?genericPartNumber=MC79L15A&fileType=pdf; ComponentLink2Description: Package Specification; ComponentLink2URL: http://www.ti.com/litv/pdf/msot002a; ComponentLink3Description: URL Link1; ComponentLink3URL: Samples URL:http://www.ti.com/product/mc79l15a#samples
footprint LP3 (TO, Flat Index; 3 In-Line, Formed Axial Leads; Body Dia. 4.8mm; Leads 0.56 x 0.41 mm (max))
pins: 1 COM (power), 2 IN (power), 3 OUT (power)

## MC79L15ACLPR
designator U?
Fixed Regulator with -17.5 to -30 V Input and -15 V Output, 0 to 125 degC, 3-Pin TO-92 (LP), Pb-Free (RoHS); Manufacturer: Texas Instruments; PartNumber: MC79L15ACLPR; Iout(Max)(A): 0.1; Iq(Typ)(mA): 6.5; DatasheetVersion: SLVS011D; PackageVersion: revC, Oct-2001; PackageReference: LP3; PackageDescription: Plastic Cylindrical Package, Formed Lead Option (TO-92); Supplier 1: Digi-Key; Supplier Part Number 1: MC79L15ACLPR-ND; Supplier 2: Newark; Supplier Part Number 2: 75C3297; Supplier 3: Mouser; Supplier Part Number 3: 595-MC79L15ACLPR; Eco-Plan: Pb-Free (RoHS); Vin(Max)(V): -30; Vin(Min)(V): -17.5; Vout(Max)(V): -15; Vout(Min)(V): -15; Mounting Technology: Through Hole; Code_JEDEC: TO-226-AA; ComponentLink1Description: Datasheet; ComponentLink1URL: http://www.ti.com/general/docs/lit/getliterature.tsp?genericPartNumber=MC79L15A&fileType=pdf; ComponentLink2Description: Package Specification; ComponentLink2URL: http://www.ti.com/litv/pdf/msot002a; ComponentLink3Description: URL Link1; ComponentLink3URL: Samples URL:http://www.ti.com/product/mc79l15a#samples
footprint LP3 (TO, Flat Index; 3 In-Line, Formed Axial Leads; Body Dia. 4.8mm; Leads 0.56 x 0.41 mm (max))
pins: 1 COM (power), 2 IN (power), 3 OUT (power)

## MC79L15ACLPRE3
designator U?
Fixed Regulator with -17.5 to -30 V Input and -15 V Output, 0 to 125 degC, 3-Pin TO-92 (LP), Pb-Free (RoHS); Manufacturer: Texas Instruments; PartNumber: MC79L15ACLPRE3; Iout(Max)(A): 0.1; Iq(Typ)(mA): 6.5; SubFamily: Single Channel LDO; DatasheetVersion: SLVS011D; PackageVersion: revC, Oct-2001; PackageReference: LP3; PackageDescription: Plastic Cylindrical Package, Formed Lead Option (TO-92); Supplier 1: Digi-Key; Supplier Part Number 1: MC79L15ACLPRE3-ND; Supplier 2: Mouser; Supplier Part Number 2: 595-MC79L15ACLPRE3; Eco-Plan: Pb-Free (RoHS); Vin(Max)(V): -30; Vin(Min)(V): -17.5; Vout(Max)(V): -15; Vout(Min)(V): -15; Mounting Technology: Through Hole; Code_JEDEC: TO-226-AA; ComponentLink1Description: Datasheet; ComponentLink1URL: http://www.ti.com/general/docs/lit/getliterature.tsp?genericPartNumber=MC79L15A&fileType=pdf; ComponentLink2Description: Package Specification; ComponentLink2URL: http://www.ti.com/litv/pdf/msot002a; ComponentLink3Description: URL Link1; ComponentLink3URL: Samples URL:http://www.ti.com/product/mc79l15a#samples
footprint LP3 (TO, Flat Index; 3 In-Line, Formed Axial Leads; Body Dia. 4.8mm; Leads 0.56 x 0.41 mm (max))
pins: 1 COM (power), 2 IN (power), 3 OUT (power)

## TL317CD
designator U?
Adjustable Regulator with 5 to 38 V Input and 1.2 to 32 V Output, 0 to 125 degC, 8-Pin SOIC (D), Green (RoHS & no Sb/Br); Manufacturer: Texas Instruments; PartNumber: TL317CD; Iout(Max)(A): 0.1; SubFamily: Single Channel LDO; Vin(Max)(V): 38; Vin(Min)(V): 5; Vout(Max)(V): 32; Vout(Min)(V): 1.2; DatasheetVersion: SLVS004H; PackageVersion: revM, Jun-2011; PackageReference: D8; PackageDescription: 8-Pin Plastic Small Outline Integrated Circuit, 4.9 x 3.9 mm, Pitch 1.27 mm Pitch; Supplier 1: Digi-Key; Supplier Part Number 1: 296-11823-5-ND; Supplier 2: Farnell; Supplier Part Number 2: 9593500; Supplier 3: Newark; Supplier Part Number 3: 08F9401; Supplier 4: Mouser; Supplier Part Number 4: 595-TL317CD; Eco-Plan: Green (RoHS & no Sb/Br); Mounting Technology: Surface Mount; Code_JEDEC: MS-012AA; ComponentLink1Description: Datasheet; ComponentLink1URL: http://www.ti.com/general/docs/lit/getliterature.tsp?genericPartNumber=TL317&fileType=pdf; ComponentLink2Description: Package Specification; ComponentLink2URL: http://www.ti.com/litv/pdf/msoi002j; ComponentLink3Description: URL Link1; ComponentLink3URL: Samples URL:http://www.ti.com/product/tl317#samples
footprint D8_N (SOIC, 8-Leads, Body 4.9x3.9mm, Pitch 1.27mm, IPC Medium Density)
footprint D8_L (SOIC, 8-Leads, Body 4.9x3.9mm, Pitch 1.27mm, IPC High Density)
footprint D8_M (SOIC, 8-Leads, Body 4.9x3.9mm, Pitch 1.27mm, IPC Low Density)
pins: 1 IN (power), 2 OUT (power), 3 OUT (power), 4 ADJ (in), 5 NC, 6 OUT (power), 7 OUT (power), 8 NC

## TL317CDE4
designator U?
Adjustable Regulator with 5 to 38 V Input and 1.2 to 32 V Output, 0 to 125 degC, 8-Pin SOIC (D), Green (RoHS & no Sb/Br); Manufacturer: Texas Instruments; PartNumber: TL317CDE4; Iout(Max)(A): 0.1; SubFamily: Single Channel LDO; Vin(Max)(V): 38; Vin(Min)(V): 5; Vout(Max)(V): 32; Vout(Min)(V): 1.2; DatasheetVersion: SLVS004H; PackageVersion: revM, Jun-2011; PackageReference: D8; PackageDescription: 8-Pin Plastic Small Outline Integrated Circuit, 4.9 x 3.9 mm, Pitch 1.27 mm Pitch; Supplier 1: Digi-Key; Supplier Part Number 1: TL317CDE4-ND; Supplier 2: Newark; Supplier Part Number 2: 40K9687; Supplier 3: Mouser; Supplier Part Number 3: 595-TL317CDE4; Eco-Plan: Green (RoHS & no Sb/Br); Mounting Technology: Surface Mount; Code_JEDEC: MS-012AA; ComponentLink1Description: Datasheet; ComponentLink1URL: http://www.ti.com/general/docs/lit/getliterature.tsp?genericPartNumber=TL317&fileType=pdf; ComponentLink2Description: Package Specification; ComponentLink2URL: http://www.ti.com/litv/pdf/msoi002j; ComponentLink3Description: URL Link1; ComponentLink3URL: Samples URL:http://www.ti.com/product/tl317#samples
footprint D8_N (SOIC, 8-Leads, Body 4.9x3.9mm, Pitch 1.27mm, IPC Medium Density)
footprint D8_L (SOIC, 8-Leads, Body 4.9x3.9mm, Pitch 1.27mm, IPC High Density)
footprint D8_M (SOIC, 8-Leads, Body 4.9x3.9mm, Pitch 1.27mm, IPC Low Density)
pins: 1 IN (power), 2 OUT (power), 3 OUT (power), 4 ADJ (in), 5 NC, 6 OUT (power), 7 OUT (power), 8 NC

## TL317CDG4
designator U?
Adjustable Regulator with 5 to 38 V Input and 1.2 to 32 V Output, 0 to 125 degC, 8-Pin SOIC (D), Green (RoHS & no Sb/Br); Manufacturer: Texas Instruments; PartNumber: TL317CDG4; Iout(Max)(A): 0.1; SubFamily: Single Channel LDO; Vin(Max)(V): 38; Vin(Min)(V): 5; Vout(Max)(V): 32; Vout(Min)(V): 1.2; DatasheetVersion: SLVS004H; PackageVersion: revM, Jun-2011; PackageReference: D8; PackageDescription: 8-Pin Plastic Small Outline Integrated Circuit, 4.9 x 3.9 mm, Pitch 1.27 mm Pitch; Supplier 1: Digi-Key; Supplier Part Number 1: TL317CDG4-ND; Supplier 2: Newark; Supplier Part Number 2: 40K9688; Supplier 3: Mouser; Supplier Part Number 3: 595-TL317CDG4; Eco-Plan: Green (RoHS & no Sb/Br); Mounting Technology: Surface Mount; Code_JEDEC: MS-012AA; ComponentLink1Description: Datasheet; ComponentLink1URL: http://www.ti.com/general/docs/lit/getliterature.tsp?genericPartNumber=TL317&fileType=pdf; ComponentLink2Description: Package Specification; ComponentLink2URL: http://www.ti.com/litv/pdf/msoi002j; ComponentLink3Description: URL Link1; ComponentLink3URL: Samples URL:http://www.ti.com/product/tl317#samples
footprint D8_N (SOIC, 8-Leads, Body 4.9x3.9mm, Pitch 1.27mm, IPC Medium Density)
footprint D8_L (SOIC, 8-Leads, Body 4.9x3.9mm, Pitch 1.27mm, IPC High Density)
footprint D8_M (SOIC, 8-Leads, Body 4.9x3.9mm, Pitch 1.27mm, IPC Low Density)
pins: 1 IN (power), 2 OUT (power), 3 OUT (power), 4 ADJ (in), 5 NC, 6 OUT (power), 7 OUT (power), 8 NC

## TL317CDR
designator U?
Adjustable Regulator with 5 to 38 V Input and 1.2 to 32 V Output, 0 to 125 degC, 8-Pin SOIC (D), Green (RoHS & no Sb/Br); Manufacturer: Texas Instruments; PartNumber: TL317CDR; Iout(Max)(A): 0.1; SubFamily: Single Channel LDO; Vin(Max)(V): 38; Vin(Min)(V): 5; Vout(Max)(V): 32; Vout(Min)(V): 1.2; DatasheetVersion: SLVS004H; PackageVersion: revM, Jun-2011; PackageReference: D8; PackageDescription: 8-Pin Plastic Small Outline Integrated Circuit, 4.9 x 3.9 mm, Pitch 1.27 mm Pitch; Supplier 1: Digi-Key; Supplier Part Number 1: 296-24385-2-ND; Supplier 2: Digi-Key; Supplier Part Number 2: 296-24385-1-ND; Supplier 3: Digi-Key; Supplier Part Number 3: 296-24385-6-ND; Supplier 4: Newark; Supplier Part Number 4: 76C9222; Supplier 5: Mouser; Supplier Part Number 5: 595-TL317CDR; Eco-Plan: Green (RoHS & no Sb/Br); Mounting Technology: Surface Mount; Code_JEDEC: MS-012AA; ComponentLink1Description: Datasheet; ComponentLink1URL: http://www.ti.com/general/docs/lit/getliterature.tsp?genericPartNumber=TL317&fileType=pdf; ComponentLink2Description: Package Specification; ComponentLink2URL: http://www.ti.com/litv/pdf/msoi002j; ComponentLink3Description: URL Link1; ComponentLink3URL: Samples URL:http://www.ti.com/product/tl317#samples
footprint D8_N (SOIC, 8-Leads, Body 4.9x3.9mm, Pitch 1.27mm, IPC Medium Density)
footprint D8_L (SOIC, 8-Leads, Body 4.9x3.9mm, Pitch 1.27mm, IPC High Density)
footprint D8_M (SOIC, 8-Leads, Body 4.9x3.9mm, Pitch 1.27mm, IPC Low Density)
pins: 1 IN (power), 2 OUT (power), 3 OUT (power), 4 ADJ (in), 5 NC, 6 OUT (power), 7 OUT (power), 8 NC

## TL317CDRE4
designator U?
Adjustable Regulator with 5 to 38 V Input and 1.2 to 32 V Output, 0 to 125 degC, 8-Pin SOIC (D), Green (RoHS & no Sb/Br); Manufacturer: Texas Instruments; PartNumber: TL317CDRE4; Iout(Max)(A): 0.1; SubFamily: Single Channel LDO; Vin(Max)(V): 38; Vin(Min)(V): 5; Vout(Max)(V): 32; Vout(Min)(V): 1.2; DatasheetVersion: SLVS004H; PackageVersion: revM, Jun-2011; PackageReference: D8; PackageDescription: 8-Pin Plastic Small Outline Integrated Circuit, 4.9 x 3.9 mm, Pitch 1.27 mm Pitch; Supplier 1: Digi-Key; Supplier Part Number 1: TL317CDRE4-ND; Supplier 2: Newark; Supplier Part Number 2: 40K9689; Supplier 3: Mouser; Supplier Part Number 3: 595-TL317CDRE4; Eco-Plan: Green (RoHS & no Sb/Br); Mounting Technology: Surface Mount; Code_JEDEC: MS-012AA; ComponentLink1Description: Datasheet; ComponentLink1URL: http://www.ti.com/general/docs/lit/getliterature.tsp?genericPartNumber=TL317&fileType=pdf; ComponentLink2Description: Package Specification; ComponentLink2URL: http://www.ti.com/litv/pdf/msoi002j; ComponentLink3Description: URL Link1; ComponentLink3URL: Samples URL:http://www.ti.com/product/tl317#samples
footprint D8_N (SOIC, 8-Leads, Body 4.9x3.9mm, Pitch 1.27mm, IPC Medium Density)
footprint D8_L (SOIC, 8-Leads, Body 4.9x3.9mm, Pitch 1.27mm, IPC High Density)
footprint D8_M (SOIC, 8-Leads, Body 4.9x3.9mm, Pitch 1.27mm, IPC Low Density)
pins: 1 IN (power), 2 OUT (power), 3 OUT (power), 4 ADJ (in), 5 NC, 6 OUT (power), 7 OUT (power), 8 NC

## TL317CDRG4
designator U?
Adjustable Regulator with 5 to 38 V Input and 1.2 to 32 V Output, 0 to 125 degC, 8-Pin SOIC (D), Green (RoHS & no Sb/Br); Manufacturer: Texas Instruments; PartNumber: TL317CDRG4; Iout(Max)(A): 0.1; SubFamily: Single Channel LDO; Vin(Max)(V): 38; Vin(Min)(V): 5; Vout(Max)(V): 32; Vout(Min)(V): 1.2; DatasheetVersion: SLVS004H; PackageVersion: revM, Jun-2011; PackageReference: D8; PackageDescription: 8-Pin Plastic Small Outline Integrated Circuit, 4.9 x 3.9 mm, Pitch 1.27 mm Pitch; Supplier 1: Digi-Key; Supplier Part Number 1: TL317CDRG4-ND; Supplier 2: Newark; Supplier Part Number 2: 40K9690; Supplier 3: Mouser; Supplier Part Number 3: 595-TL317CDRG4; Eco-Plan: Green (RoHS & no Sb/Br); Mounting Technology: Surface Mount; Code_JEDEC: MS-012AA; ComponentLink1Description: Datasheet; ComponentLink1URL: http://www.ti.com/general/docs/lit/getliterature.tsp?genericPartNumber=TL317&fileType=pdf; ComponentLink2Description: Package Specification; ComponentLink2URL: http://www.ti.com/litv/pdf/msoi002j; ComponentLink3Description: URL Link1; ComponentLink3URL: Samples URL:http://www.ti.com/product/tl317#samples
footprint D8_N (SOIC, 8-Leads, Body 4.9x3.9mm, Pitch 1.27mm, IPC Medium Density)
footprint D8_L (SOIC, 8-Leads, Body 4.9x3.9mm, Pitch 1.27mm, IPC High Density)
footprint D8_M (SOIC, 8-Leads, Body 4.9x3.9mm, Pitch 1.27mm, IPC Low Density)
pins: 1 IN (power), 2 OUT (power), 3 OUT (power), 4 ADJ (in), 5 NC, 6 OUT (power), 7 OUT (power), 8 NC

## TL317CLP
designator U?
Adjustable Regulator with 5 to 38 V Input and 1.2 to 32 V Output, 0 to 125 degC, 3-Pin TO-92 (LP), Pb-Free (RoHS); Manufacturer: Texas Instruments; PartNumber: TL317CLP; Iout(Max)(A): 0.1; SubFamily: Single Channel LDO; Vin(Max)(V): 38; Vin(Min)(V): 5; Vout(Max)(V): 32; Vout(Min)(V): 1.2; DatasheetVersion: SLVS004H; PackageVersion: revC, Oct-2001; PackageReference: LP3; PackageDescription: Plastic Cylindrical Package, Formed Lead Option (TO-92); Supplier 1: Digi-Key; Supplier Part Number 1: 296-10167-5-ND; Supplier 2: Farnell; Supplier Part Number 2: 9593519; Supplier 3: Newark; Supplier Part Number 3: 08F9402; Supplier 4: Mouser; Supplier Part Number 4: 595-TL317CLP; Eco-Plan: Pb-Free (RoHS); Mounting Technology: Through Hole; Code_JEDEC: TO-226-AA; ComponentLink1Description: Datasheet; ComponentLink1URL: http://www.ti.com/general/docs/lit/getliterature.tsp?genericPartNumber=TL317&fileType=pdf; ComponentLink2Description: Package Specification; ComponentLink2URL: http://www.ti.com/litv/pdf/msot002a; ComponentLink3Description: URL Link1; ComponentLink3URL: Samples URL:http://www.ti.com/product/tl317#samples
footprint LP3 (TO, Flat Index; 3 In-Line, Formed Axial Leads; Body Dia. 4.8mm; Leads 0.56 x 0.41 mm (max))
pins: 1 GND (in), 2 OUT (power), 3 IN (power)
text: ADJ

## TL317CLPE3
designator U?
Adjustable Regulator with 5 to 38 V Input and 1.2 to 32 V Output, 0 to 125 degC, 3-Pin TO-92 (LP), Pb-Free (RoHS); Manufacturer: Texas Instruments; PartNumber: TL317CLPE3; Iout(Max)(A): 0.1; SubFamily: Single Channel LDO; Vin(Max)(V): 38; Vin(Min)(V): 5; Vout(Max)(V): 32; Vout(Min)(V): 1.2; DatasheetVersion: SLVS004H; PackageVersion: revC, Oct-2001; PackageReference: LP3; PackageDescription: Plastic Cylindrical Package, Formed Lead Option (TO-92); Supplier 1: Digi-Key; Supplier Part Number 1: TL317CLPE3-ND; Supplier 2: Newark; Supplier Part Number 2: 70K5570; Supplier 3: Mouser; Supplier Part Number 3: 595-TL317CLPE3; Eco-Plan: Pb-Free (RoHS); Mounting Technology: Through Hole; Code_JEDEC: TO-226-AA; ComponentLink1Description: Datasheet; ComponentLink1URL: http://www.ti.com/general/docs/lit/getliterature.tsp?genericPartNumber=TL317&fileType=pdf; ComponentLink2Description: Package Specification; ComponentLink2URL: http://www.ti.com/litv/pdf/msot002a; ComponentLink3Description: URL Link1; ComponentLink3URL: Samples URL:http://www.ti.com/product/tl317#samples
footprint LP3 (TO, Flat Index; 3 In-Line, Formed Axial Leads; Body Dia. 4.8mm; Leads 0.56 x 0.41 mm (max))
pins: 1 GND (in), 2 OUT (power), 3 IN (power)
text: ADJ

## TL317CLPR
designator U?
Adjustable Regulator with 5 to 38 V Input and 1.2 to 32 V Output, 0 to 125 degC, 3-Pin TO-92 (LP), Pb-Free (RoHS); Manufacturer: Texas Instruments; PartNumber: TL317CLPR; Iout(Max)(A): 0.1; SubFamily: Single Channel LDO; Vin(Max)(V): 38; Vin(Min)(V): 5; Vout(Max)(V): 32; Vout(Min)(V): 1.2; DatasheetVersion: SLVS004H; PackageVersion: revC, Oct-2001; PackageReference: LP3; PackageDescription: Plastic Cylindrical Package, Formed Lead Option (TO-92); Supplier 1: Digi-Key; Supplier Part Number 1: 296-15008-2-ND; Supplier 2: Digi-Key; Supplier Part Number 2: 296-15008-1-ND; Supplier 3: Digi-Key; Supplier Part Number 3: 296-15008-6-ND; Supplier 4: Newark; Supplier Part Number 4: 76C9223; Supplier 5: Mouser; Supplier Part Number 5: 595-TL317CLPR; Eco-Plan: Pb-Free (RoHS); Mounting Technology: Through Hole; Code_JEDEC: TO-226-AA; ComponentLink1Description: Datasheet; ComponentLink1URL: http://www.ti.com/general/docs/lit/getliterature.tsp?genericPartNumber=TL317&fileType=pdf; ComponentLink2Description: Package Specification; ComponentLink2URL: http://www.ti.com/litv/pdf/msot002a; ComponentLink3Description: URL Link1; ComponentLink3URL: Samples URL:http://www.ti.com/product/tl317#samples
footprint LP3 (TO, Flat Index; 3 In-Line, Formed Axial Leads; Body Dia. 4.8mm; Leads 0.56 x 0.41 mm (max))
pins: 1 GND (in), 2 OUT (power), 3 IN (power)
text: ADJ

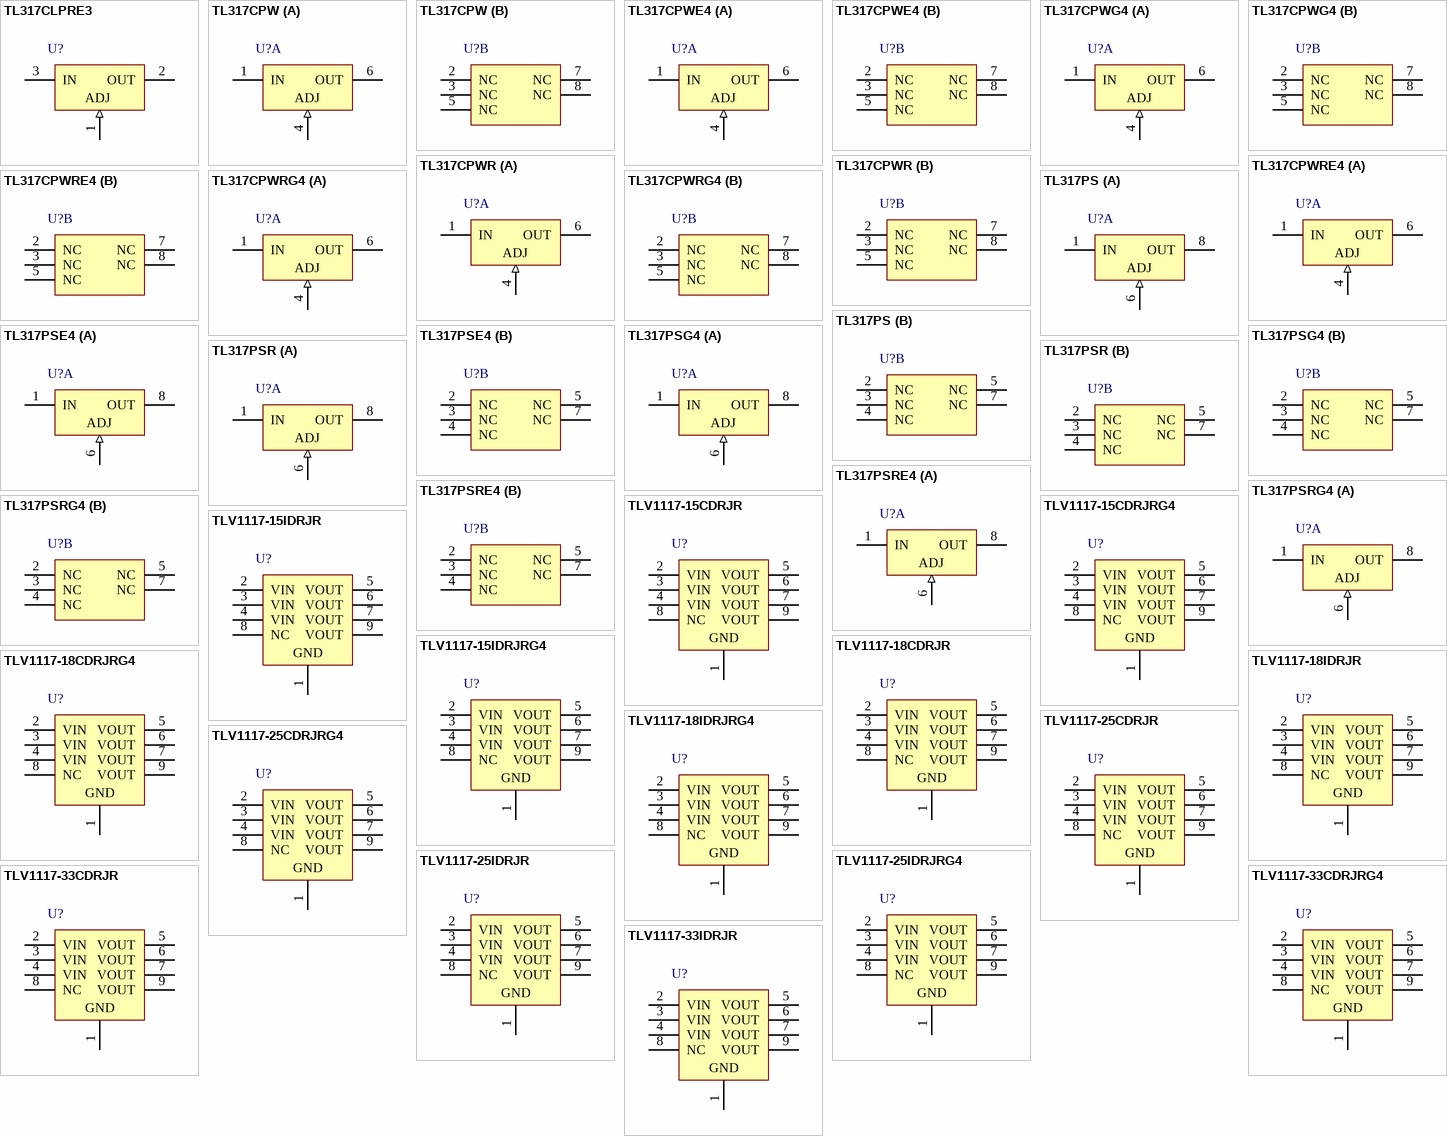
[diagram p2: symbols TL317CLPRE3 to TLV1117-33IDRJR]